# Altium schematic symbol library REFLOW_CONTROLLER.SchLib: 54 symbols
Pins are listed as number, name and electrical type; pins without a type are passive.

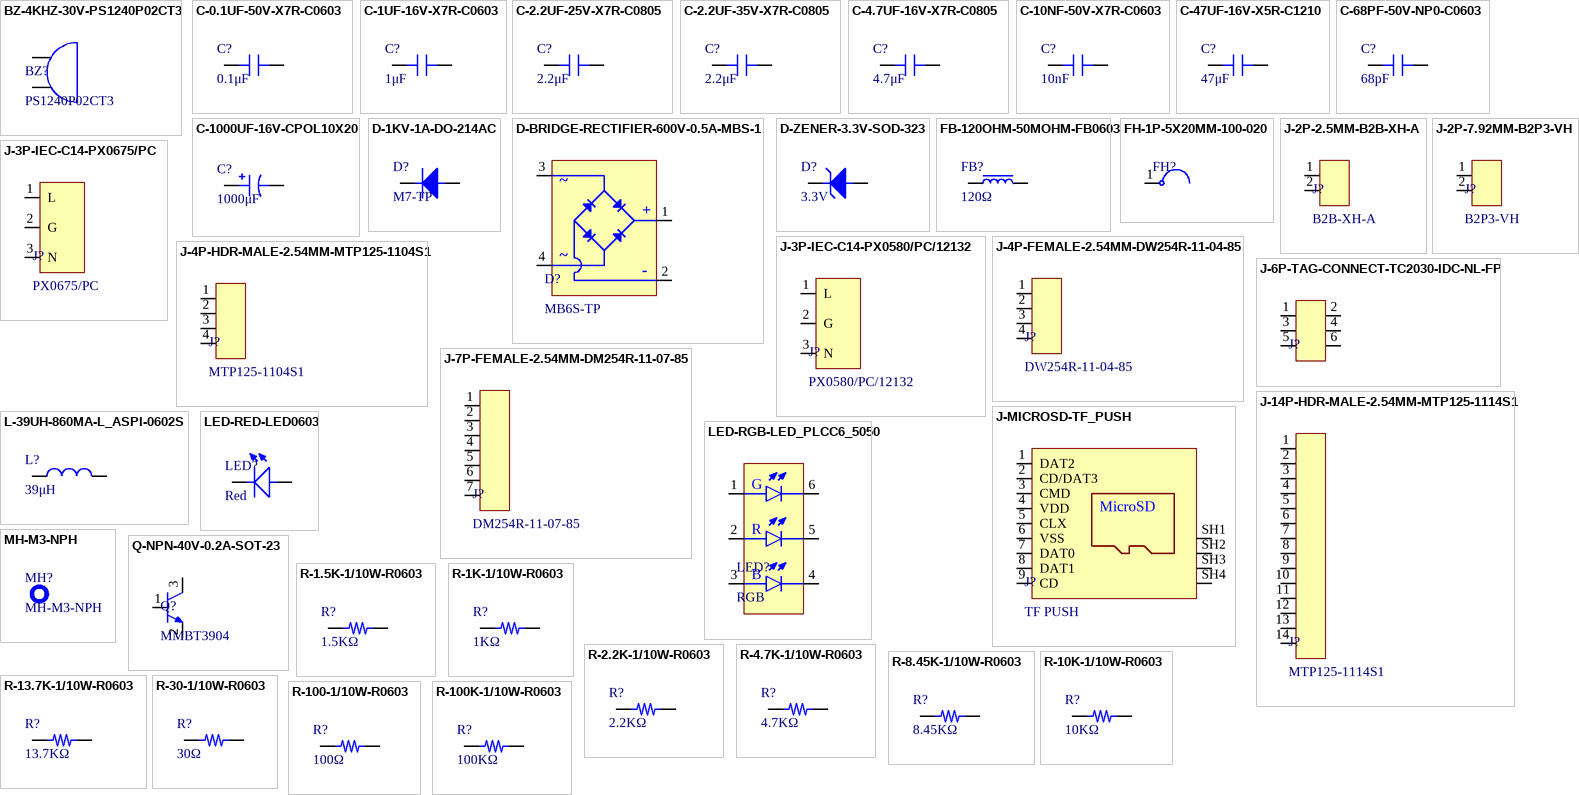
[diagram p0: symbols BZ-4KHZ-30V-PS1240P02CT3 to R-100K-1/10W-R0603]

## BZ-4KHZ-30V-PS1240P02CT3
designator BZ?, comment PS1240P02CT3
60dB Externally Driven Externally Driven 4kHz Plugin,D=12.2mm Buzzers ROHS; Manufacturer: TDK; Manufacturer Part Number: PS1240P02CT3; Price Unit: 0.2373; Price 1K: 0.1495; Supplier 1: LCSC; Supplier Part Number 1: C76873
footprint PS1240P02CT3
pins: 1, 2

## C-0.1UF-50V-X7R-C0603
designator C?, comment 0.1μF
50V 100nF X7R ±10% 0603 Multilayer Ceramic Capacitors MLCC - SMD/SMT ROHS; Manufacturer: Samsung Electro-Mechanics; Manufacturer Part Number: CL10B104KB8NNNC; Price Unit: 0.0024; Price 1K: 0.0019; Supplier 1: LCSC; Supplier Part Number 1: C1591
footprint C0603
pins: 1, 2

## C-1UF-16V-X7R-C0603
designator C?, comment 1μF
16V 1uF X7R ±10% 0603 Multilayer Ceramic Capacitors MLCC - SMD/SMT ROHS; Manufacturer: Samsung Electro-Mechanics; Manufacturer Part Number: CL10B105KO8NNNC; Price Unit: 0.0033; Price 1K: 0.0029; Supplier 1: LCSC; Supplier Part Number 1: C59782
footprint C0603
pins: 1, 2

## C-2.2UF-25V-X7R-C0805
designator C?, comment 2.2μF
25V 2.2uF X7R ±10% 0805 Multilayer Ceramic Capacitors MLCC - SMD/SMT ROHS; Manufacturer: Samsung Electro-Mechanics; Manufacturer Part Number: CL21B225KAFNNNE; Price Unit: 0.013; Price 1K: 0.0073; Supplier 1: LCSC; Supplier Part Number 1: C19110
footprint C0805
pins: 1, 2

## C-2.2UF-35V-X7R-C0805
designator C?, comment 2.2μF
35V 2.2uF X7R ±10% 0805 Multilayer Ceramic Capacitors MLCC - SMD/SMT ROHS; Manufacturer: TDK; Manufacturer Part Number: CGA4J1X7R1V225KT0Y0E; Price Unit: 0.1161; Price 1K: 0.0724; Supplier 1: LCSC; Supplier Part Number 1: C342739
footprint C0805
pins: 1, 2

## C-4.7UF-16V-X7R-C0805
designator C?, comment 4.7μF
16V 4.7uF X7R ±10% 0805 Multilayer Ceramic Capacitors MLCC - SMD/SMT ROHS; Manufacturer: Taiyo Yuden; Manufacturer Part Number: EMK212B7475KG-T; Price Unit: 0.0182; Price 1K: 0.0145; Supplier 1: LCSC; Supplier Part Number 1: C92762
footprint C0805
pins: 1, 2

## C-10NF-50V-X7R-C0603
designator C?, comment 10nF
50V 10nF X7R ±10% 0603 Multilayer Ceramic Capacitors MLCC - SMD/SMT ROHS; Manufacturer: Samsung Electro-Mechanics; Manufacturer Part Number: CL10B103KB8NNNC; Price Unit: 0.0028; Price 1K: 0.0022; Supplier 1: LCSC; Supplier Part Number 1: C1589
footprint C0603
pins: 1, 2

## C-47UF-16V-X5R-C1210
designator C?, comment 47μF
16V 47uF X5R ±10% 1210 Multilayer Ceramic Capacitors MLCC - SMD/SMT ROHS; Manufacturer: Murata; Manufacturer Part Number: GRM32ER61C476KE15L; Price Unit: 0.1302; Price 1K: 0.079; Supplier 1: LCSC; Supplier Part Number 1: C77101
footprint C1210
pins: 1, 2

## C-68PF-50V-NP0-C0603
designator C?, comment 68pF
50V 68pF NP0 ±5% 0603 Multilayer Ceramic Capacitors MLCC - SMD/SMT ROHS; Manufacturer: Yageo; Manufacturer Part Number: CC0603JRNPO9BN680; Price Unit: 0.0027; Price 1K: 0.0021; Supplier 1: LCSC; Supplier Part Number 1: C62782
footprint C0603
pins: 1, 2

## C-1000UF-16V-CPOL10X20
designator C?, comment 1000μF
1000uF 16V 78mΩ@100kHz ±20% 1.05A@100kHz Plugin,D10xL20mm Aluminum Electrolytic Capacitors - Leaded ROHS; Manufacturer: Rubycon; Manufacturer Part Number: 16YXF1000MEFC10X20; Price Unit: 0.1397; Price 1K: 0.0774; Supplier 1: LCSC; Supplier Part Number 1: C110138
footprint CPOL10X20
pins: 1, 2

## D-1KV-1A-DO-214AC
designator D?, comment M7-TP
1A 1kV 1.1V@1A SMA(DO-214AC) Diodes - General Purpose ROHS; Manufacturer: Micro Commercial Components; Manufacturer Part Number: M7-TP; Price Unit: 0.013; Price 1K: 0.0104; Supplier 1: LCSC; Supplier Part Number 1: C85148
footprint DO-214AC
pins: A, K

## D-BRIDGE-RECTIFIER-600V-0.5A-MBS-1
designator D?, comment MB6S-TP
35A 1V@400mA 800mA 600V MBS Bridge Rectifiers ROHS; Manufacturer: Micro Commercial Components; Manufacturer Part Number: MB6S-TP; Price Unit: 0.0398; Price 1K: 0.0284; Supplier 1: LCSC; Supplier Part Number 1: C85619
footprint MBS-1
pins: 1 +, 2 -, 3 ~, 4 ~

## D-ZENER-3.3V-SOD-323
designator D?, comment 3.3V
Single 3.32V~3.53V 400mW 3.3V SOD-323 Zener Diodes ROHS; Manufacturer: Nexperia; Manufacturer Part Number: PDZ3.3B,115; Price Unit: 0.0192; Price 1K: 0.013; Supplier 1: LCSC; Supplier Part Number 1: C426855
footprint SOD-323
pins: A, K

## FB-120OHM-50MOHM-FB0603
designator FB?, comment 120Ω
50mΩ ±25% 120Ω@100MHz 0603 Ferrite Beads ROHS; Manufacturer: Murata Electronics; Manufacturer Part Number: BLM18PG121SN1D; Price Unit: 0.0062; Price 1K: 0.0049; Supplier 1: LCSC; Supplier Part Number 1: C14709
footprint FB0603
pins: 1, 2

## FH-1P-5X20MM-100-020
designator FH?, comment 01000020Z  (value not drawn)
Circuit Board Mount Fuse Clips for 5mm Diameter Fuses; Manufacturer: Littelfuse; Manufacturer Part Number: 01000020Z; Price Unit: 0.206; Price 1K: 0.1324; Supplier 1: LCSC; Supplier Part Number 1: C142797
footprint 100-020
pins: 1

## J-2P-2.5MM-B2B-XH-A
designator J?, comment B2B-XH-A
1x2P 2P XH 1 2.5mm 2 Brass Plugin,P=2.5mm Wire To Board Connector ROHS; Manufacturer: JST; Manufacturer Part Number: B2B-XH-A(LF)(SN); Price Unit: 0.0301; Price 1K: 0.0208; Supplier 1: LCSC; Supplier Part Number 1: C158012
footprint B2B-XH-A
pins: 1, 2

## J-2P-7.92MM-B2P3-VH
designator J?, comment B2P3-VH
1x2P 2P VH 1 7.92mm 2 Brass Plugin,P=7.92mm Wire To Board Connector ROHS; Manufacturer: JST; Manufacturer Part Number: B2P3-VH(LF)(SN); Price Unit: 0.0558; Price 1K: 0.0310; Supplier 1: LCSC; Supplier Part Number 1: C160745
footprint B2P3-VH
pins: 1, 2

## J-3P-IEC-C14-PX0580/PC/12132
designator J?, comment PX0580/PC/12132
C14 Right Angle Panel Mount, PCB Mount IEC Connector Male, 10A, 250 V; Manufacturer: Bulgin; Manufacturer Part Number: PX0580/PC/12132; Price Unit: 5.03; Price 1K: 4.37; Supplier 1: RS; Supplier Part Number 1: 261-5840
footprint PX0580/PC/12132
pins: 1 L, 2 G, 3 N

## J-3P-IEC-C14-PX0675/PC
designator J?, comment PX0675/PC
C13 Right Angle Panel Mount, PCB Mount IEC Connector Socket, 10A, 250 V; Manufacturer: Bulgin; Manufacturer Part Number: PX0675/PC; Price Unit: 6.49; Price 1K: 5.45; Supplier 1: RS; Supplier Part Number 1: 801-948
footprint PX0675/PC
pins: 1 L, 2 G, 3 N

## J-4P-FEMALE-2.54MM-DW254R-11-04-85
designator J?, comment DW254R-11-04-85
2.54mm Plugin 3A 4P Straight 1x4P 8.5mm Top Square Holes Plugin,P=2.54mm Female Headers ROHS; Manufacturer: DEALON; Manufacturer Part Number: DW254R-11-04-85; Price Unit: 0.0447; Price 1K: 0.0266; Supplier 1: LCSC; Supplier Part Number 1: C2935898
footprint DM254R-11-04-85
pins: 1, 2, 3, 4

## J-4P-HDR-MALE-2.54MM-MTP125-1104S1
designator J?, comment MTP125-1104S1
Direct Insert Policy 2.5mm 4P 6mm -40℃~+105℃ 3mm 2.54mm Single Row Black Brass 1x4P Plugin,P=2.54mm Pin Headers ROHS; Manufacturer: MINTRON; Manufacturer Part Number: MTP125-1104S1; Price Unit: 0.0203; Price 1K: 0.0135; Supplier 1: LCSC; Supplier Part Number 1: C358686
footprint MTP125-1104S1
pins: 1, 2, 3, 4

## J-6P-TAG-CONNECT-TC2030-IDC-NL-FP
designator J?, comment TC2030-IDC-NL  (value not drawn)  (no BOM)
“No Legs” 6-pin Plug-of-Nails™ Cable fitted with a 6-pin 0.1″ pitch ribbon connector; Manufacturer: Tag-Connect; Supplier 1: Tag-Connect; Supplier Part Number 1: TC2030-IDC-NL; Price Unit: 0.00; Price 1K: 0.00; Manufacturer Part Number: TC2030-IDC-NL
footprint TC2030-IDC-NL-FP
pins: 1, 2, 3, 4, 5, 6

## J-7P-FEMALE-2.54MM-DM254R-11-07-85
designator J?, comment DM254R-11-07-85
2.54mm Plugin 3A 7P Straight 1x7P 8.5mm Top Square Holes Plugin,P=2.54mm Female Headers ROHS; Manufacturer: DEALON; Manufacturer Part Number: DM254R-11-07-85; Price Unit: 0.0634; Price 1K: 0.0376; Supplier 1: LCSC; Supplier Part Number 1: C2935978
footprint DM254R-11-07-85
pins: 1, 2, 3, 4, 5, 6, 7

## J-14P-HDR-MALE-2.54MM-MTP125-1114S1
designator J?, comment MTP125-1114S1
14P 2.54mm Single Row 1x14P Plugin,P=2.54mm Pin Headers ROHS; Manufacturer: MINTRON; Manufacturer Part Number: MTP125-1114S1; Price Unit: 0.0696; Price 1K: 0.0435; Supplier 1: LCSC; Supplier Part Number 1: C5142340
footprint MTP125-1114S1
pins: 1, 2, 3, 4, 5, 6, 7, 8, 9, 10, 11, 12, 13, 14

## J-MICROSD-TF_PUSH
designator J?, comment TF PUSH
-20℃~+90℃ 2mm Card Slot MicroSD card (TF card) Self-bouncing SMD SD Card / Memory Card Connector ROHS; Manufacturer: SHOU HAN; Manufacturer Part Number: TF PUSH; Price Unit: 0.0465; Price 1K: 0.03; Supplier 1: LCSC; Supplier Part Number 1: C393941
footprint TF_PUSH
pins: 1 DAT2, 2 CD/DAT3, 3 CMD, 4 VDD, 5 CLX, 6 VSS, 7 DAT0, 8 DAT1, 9 CD, SH1 SHIELD, SH2 SHIELD, SH3 SHIELD, SH4 SHIELD
text: MicroSD

## L-39UH-860MA-L_ASPI-0602S
designator L?, comment 39μH
860mA 39uH ±20% SMD,6.7x6.7mm Power Inductors ROHS; Manufacturer: Abracon; Manufacturer Part Number: ASPI-0602S-390M-T; Price Unit: 0.0798; Price 1K: 0.0437; Supplier 1: LCSC; Supplier Part Number 1: C187310
footprint L_ASPI-0602S
pins: 1, 2

## LED-RED-LED0603
designator LED?, comment Red
20mA 54mcd -55℃~+85℃ 631nm Red 130° 75mW 2V 0603 Light Emitting Diodes (LED) ROHS; Manufacturer: Lite-On; Manufacturer Part Number: LTST-C191KRKT; Price Unit: 0.014; Price 1K: 0.011; Supplier 1: LCSC; Supplier Part Number 1: C125099
footprint LED0603
pins: A, K

## LED-RGB-LED_PLCC6_5050
designator LED?, comment RGB
SMD5050 RGB LEDs ROHS; Manufacturer: HONGLITRONIC; Manufacturer Part Number: HL-AF-5060H248BS36FU76GC-S1-THL; Price Unit: 0.014; Price 1K: 0.0325; Supplier 1: LCSC; Supplier Part Number 1: C2683773
footprint LED_PLCC6_5050
pins: 1, 2, 3, 4, 5, 6
text: G; R; B

## MH-M3-NPH
designator MH?  (no BOM)
Mounting Hole M3 Non Plated Hole; Manufacturer: *; Manufacturer Part Number: *; Price Unit: *; Price 1K: *; Supplier 1: *; Supplier Part Number 1: *
footprint MH-M3-NPH

## Q-NPN-40V-0.2A-SOT-23
designator Q?, comment MMBT3904
40V 250mW 200mA NPN SOT-23 Bipolar Transistors - BJT ROHS; Manufacturer: Nexperia; Manufacturer Part Number: MMBT3904; Price Unit: 0.0155; Price 1K: 0.0124; Supplier 1: LCSC; Supplier Part Number 1: C108429
footprint SOT-23
pins: 1 B, 2 E, 3 C

## R-1.5K-1/10W-R0603
designator R?, comment 1.5KΩ
100mW Thick Film Resistors 75V ±100ppm/℃ ±1% 1.5kΩ 0603 Chip Resistor - Surface Mount ROHS; Manufacturer: Yageo; Manufacturer Part Number: RC0603FR-071K5L; Price Unit: 0.0012; Price 1K: 0.0009; Supplier 1: LCSC; Supplier Part Number 1: C114668
footprint R0603
pins: 1, 2

## R-1K-1/10W-R0603
designator R?, comment 1KΩ
100mW Thick Film Resistors 75V ±100ppm/℃ ±1% 1kΩ 0603 Chip Resistor - Surface Mount ROHS; Manufacturer: Yageo; Manufacturer Part Number: RC0603FR-071KL; Price Unit: 0.001; Price 1K: 0.0008; Supplier 1: LCSC; Supplier Part Number 1: C22548
footprint R0603
pins: 1, 2

## R-2.2K-1/10W-R0603
designator R?, comment 2.2KΩ
100mW Thick Film Resistors 75V ±100ppm/℃ ±1% 2.2kΩ 0603 Chip Resistor - Surface Mount ROHS; Manufacturer: Yageo; Manufacturer Part Number: RC0603FR-072K2L; Price Unit: 0.0011; Price 1K: 0.0009; Supplier 1: LCSC; Supplier Part Number 1: C114662
footprint R0603
pins: 1, 2

## R-4.7K-1/10W-R0603
designator R?, comment 4.7KΩ
100mW Thick Film Resistors 75V ±100ppm/℃ ±1% 4.7kΩ 0603 Chip Resistor - Surface Mount ROHS; Manufacturer: Yageo; Manufacturer Part Number: RC0603FR-074K7L; Price Unit: 0.001; Price 1K: 0.0008; Supplier 1: LCSC; Supplier Part Number 1: C99782
footprint R0603
pins: 1, 2

## R-8.45K-1/10W-R0603
designator R?, comment 8.45KΩ
100mW Thick Film Resistors 75V ±100ppm/℃ ±1% 8.45kΩ 0603 Chip Resistor - Surface Mount ROHS; Manufacturer: Yageo; Manufacturer Part Number: RC0603FR-078K45L; Price Unit: 0.0012; Price 1K: 0.001; Supplier 1: LCSC; Supplier Part Number 1: C163417
footprint R0603
pins: 1, 2

## R-10K-1/10W-R0603
designator R?, comment 10KΩ
100mW Thick Film Resistors 75V ±100ppm/℃ ±1% 10kΩ 0603 Chip Resistor - Surface Mount ROHS; Manufacturer: Yageo; Manufacturer Part Number: RC0603FR-0710KL; Price Unit: 0.0009; Price 1K: 0.0007; Supplier 1: LCSC; Supplier Part Number 1: C98220
footprint R0603
pins: 1, 2

## R-13.7K-1/10W-R0603
designator R?, comment 13.7KΩ
100mW Thick Film Resistors 75V ±100ppm/℃ ±1% 13.7kΩ 0603 Chip Resistor - Surface Mount ROHS; Manufacturer: Yageo; Manufacturer Part Number: RC0603FR-0713K7L; Price Unit: 0.0013; Price 1K: 0.001; Supplier 1: LCSC; Supplier Part Number 1: C482771
footprint R0603
pins: 1, 2

## R-30-1/10W-R0603
designator R?, comment 30Ω
100mW Thick Film Resistors 75V ±100ppm/℃ ±1% 30Ω 0603 Chip Resistor - Surface Mount ROHS; Manufacturer: Yageo; Manufacturer Part Number: RC0603FR-0730RL; Price Unit: 0.0012; Price 1K: 0.001; Supplier 1: LCSC; Supplier Part Number 1: C128060
footprint R0603
pins: 1, 2

## R-100-1/10W-R0603
designator R?, comment 100Ω
100mW Thick Film Resistors 75V ±100ppm/℃ ±1% 100Ω 0603 Chip Resistor - Surface Mount ROHS; Manufacturer: Yageo; Manufacturer Part Number: RC0603FR-07100RL; Price Unit: 0.001; Price 1K: 0.0007; Supplier 1: LCSC; Supplier Part Number 1: C105588
footprint R0603
pins: 1, 2

## R-100K-1/10W-R0603
designator R?, comment 100KΩ
100mW Thick Film Resistors 75V ±100ppm/℃ ±1% 100kΩ 0603 Chip Resistor - Surface Mount ROHS; Manufacturer: Yageo; Manufacturer Part Number: RC0603FR-07100KL; Price Unit: 0.0009; Price 1K: 0.0007; Supplier 1: LCSC; Supplier Part Number 1: C14675
footprint R0603
pins: 1, 2

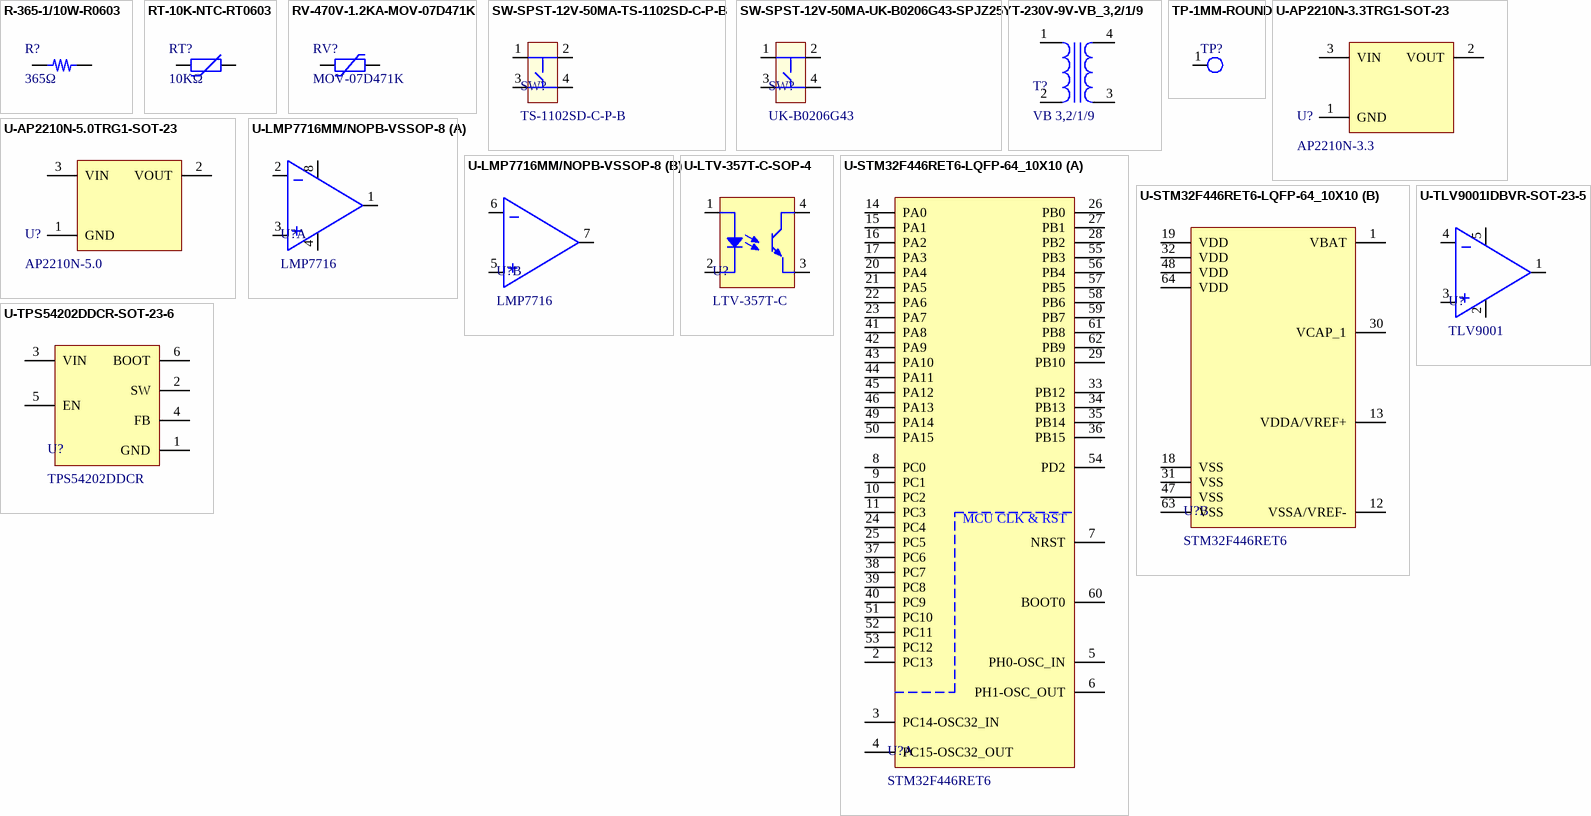
[diagram p1: symbols R-365-1/10W-R0603 to U-TPS54202DDCR-SOT-23-6]

## R-365-1/10W-R0603
designator R?, comment 365Ω
RES SMD 365 OHM 1% 1/10W 0603; Manufacturer: Bourns Inc.; Manufacturer Part Number: CR0603-FX-3650ELF; Price Unit: 0.001; Price 1K: 0.100; Supplier 1: DigiKey; Supplier Part Number 1: 118-CR0603-FX-3650ELFCT-ND
footprint R0603
pins: 1, 2

## RT-10K-NTC-RT0603
designator RT?, comment 10KΩ
10kΩ 330uA 100mW ±1% 3950K ±1% 0603 NTC Thermistors ROHS; Manufacturer: Sunlord; Manufacturer Part Number: SDNT1608X103F3950FTF; Price Unit: 0.0206; Price 1K: 0.0148; Supplier 1: LCSC; Supplier Part Number 1: C279936
footprint RT0603
pins: 1, 2

## RV-470V-1.2KA-MOV-07D471K
designator RV?, comment MOV-07D471K
VARISTOR 470V 1.2KA DISC 7MM; Manufacturer: Bourns; Manufacturer Part Number: MOV-07D471K; Price Unit: 0.0857; Price 1K: 0.0532; Supplier 1: LCSC; Supplier Part Number 1: C1527385
footprint MOV-07D471K
pins: 1, 2

## SW-SPST-12V-50MA-TS-1102SD-C-P-B
designator SW?, comment TS-1102SD-C-P-B
No NO 50mA 6mm 100mΩ 300000 12V 260gf -20℃~+70℃ 6mm 11.5mm Black Round Button Brick nogging SPST SMD Tactile Switches ROHS; Manufacturer: XKB Connectivity; Price 1K: 0.0375; Price Unit: 0.0604; Manufacturer Part Number: TS-1102SD-C-P-B; Supplier 1: LCSC; Supplier Part Number 1: C2936025
footprint TS-1102SD-C-P-B
pins: 1, 2, 3, 4

## SW-SPST-12V-50MA-UK-B0206G43-SPJZ25Y
designator SW?, comment UK-B0206G43
NO 50mA 4.5mm Gull Wing 4.3mm Black Round Button Brick nogging SPST 4.5mm SMD Tactile Switches ROHS; Manufacturer: USAKRO; Manufacturer Part Number: UK-B0206G43-SPJZ25Y; Price 1K: 0.0421; Price Unit: 0.0676; Supplier 1: LCSC; Supplier Part Number 1: C493308
footprint UK-B0206G43-SPJZ25Y
pins: 1, 2, 3, 4

## T-230V-9V-VB_3,2/1/9
designator T?, comment VB 3,2/1/9
Block 9V ac 1 Output Through Hole PCB Transformer, 3.2VA; Manufacturer: Block; Manufacturer Part Number: VB 3,2/1/9; Price Unit: 7.24; Price 1K: 7.24; Supplier 1: RS; Supplier Part Number 1: 732-0398
footprint VB_3,2/1/9
pins: 1, 2, 3, 4

## TP-1MM-ROUND
designator TP?  (value not drawn)  (no BOM)
Round Test Point 1mm Dia
footprint TP-1MM-ROUND
pins: 1

## U-AP2210N-3.3TRG1-SOT-23
designator U?, comment AP2210N-3.3
300mA 75dB@(100Hz) Fixed 3.3V Positive electrode 13.2V SOT-23 Linear Voltage Regulators (LDO) ROHS; Manufacturer: Diodes Incorporated; Manufacturer Part Number: AP2210N-3.3TRG1; Price Unit: 0.0907; Price 1K: 0.0597; Supplier 1: LCSC; Supplier Part Number 1: C155508
footprint SOT-23
pins: 1 GND, 2 VOUT, 3 VIN

## U-AP2210N-5.0TRG1-SOT-23
designator U?, comment AP2210N-5.0
300mA 75dB@(100Hz) Fixed 5V Positive electrode 13.2V SOT-23 Linear Voltage Regulators (LDO) ROHS; Manufacturer: Diodes Incorporated; Manufacturer Part Number: AP2210N-5.0TRG1; Price Unit: 0.1405; Price 1K: 0.0839; Supplier 1: LCSC; Supplier Part Number 1: C460341
footprint SOT-23
pins: 1 GND, 2 VOUT, 3 VIN

## U-LMP7716MM/NOPB-VSSOP-8
designator U?, comment LMP7716
17MHz 0.1pA Dual VSSOP-8 Precision OpAmps ROHS; Manufacturer: Texas Instruments; Manufacturer Part Number: LMP7716MM/NOPB; Price Unit: 2.1951; Price 1K: 1.3767; Supplier 1: LCSC; Supplier Part Number 1: C72531
footprint VSSOP-8
part A pins: 1 OUT A, 2 -IN A, 3 +IN A, 4 V-, 8 V+
part B pins: 5 +IN B, 6 -IN B, 7 OUT B

## U-LTV-357T-C-SOP-4
designator U?, comment LTV-357T-C
35V 3.75kV 50mA 200mV@1mA,20mA 1 6V 1.2V DC SOP-4-2.54mm Transistor Output Optocoupler ROHS; Manufacturer: Lite-On; Manufacturer Part Number: LTV-357T-C; Price Unit: 0.0585; Price 1K: 0.0375; Supplier 1: LCSC; Supplier Part Number 1: C119091
footprint SOP-4
pins: 1, 2, 3, 4

## U-STM32F446RET6-LQFP-64_10X10
designator U?, comment STM32F446RET6
512KB 1.7V~3.6V ARM-M4 128KB 180MHz FLASH 50 LQFP-64(10x10) Microcontrollers (MCU/MPU/SOC) ROHS; Manufacturer: STMicroelectronics; Manufacturer Part Number: STM32F446RET6; Price Unit: 3.3018; Price 1K: 2.3276; Supplier 1: LCSC; Supplier Part Number 1: C69336
footprint LQFP-64_10X10
part A pins: 2 PC13, 3 PC14-OSC32_IN, 4 PC15-OSC32_OUT, 5 PH0-OSC_IN, 6 PH1-OSC_OUT, 7 NRST, 8 PC0, 9 PC1, 10 PC2, 11 PC3, 14 PA0, 15 PA1, 16 PA2, 17 PA3, 20 PA4, 21 PA5, 22 PA6, 23 PA7, 24 PC4, 25 PC5, 26 PB0, 27 PB1, 28 PB2, 29 PB10, 33 PB12, 34 PB13, 35 PB14, 36 PB15, 37 PC6, 38 PC7, 39 PC8, 40 PC9, 41 PA8, 42 PA9, 43 PA10, 44 PA11, 45 PA12, 46 PA13, 49 PA14, 50 PA15, 51 PC10, 52 PC11, 53 PC12, 54 PD2, 55 PB3, 56 PB4, 57 PB5, 58 PB6, 59 PB7, 60 BOOT0, 61 PB8, 62 PB9
part B pins: 1 VBAT, 12 VSSA/VREF-, 13 VDDA/VREF+, 18 VSS, 19 VDD, 30 VCAP_1, 31 VSS, 32 VDD, 47 VSS, 48 VDD, 63 VSS, 64 VDD
part A text: MCU CLK & RST

## U-TLV9001IDBVR-SOT-23-5
designator U?, comment TLV9001
5pA Single 1MHz SOT-23-5 Operational Amplifier ROHS; Manufacturer: Texas Instruments; Manufacturer Part Number: TLV9001IDBVR; Price Unit: 0.2141; Price 1K: 0.136; Supplier 1: LCSC; Supplier Part Number 1: C398363
footprint SOT-23-5
pins: 1 OUT, 2 V-, 3 IN+, 4 IN-, 5 V+

## U-TPS54202DDCR-SOT-23-6
designator U?, comment TPS54202DDCR
4.5-V to 28-V Input, 2-A Output, EMI Friendly  Synchronous Step Down Converter; Manufacturer: Texas Instruments; Manufacturer Part Number: TPS54202DDCR; Price Unit: 0.1566; Price 1K: 0.0922; Supplier 1: LCSC; Supplier Part Number 1: C191884
footprint SOT-23-6
pins: 1 GND, 2 SW, 3 VIN, 4 FB, 5 EN, 6 BOOT